# Altium integrated library Components - TPS1HB50.IntLib: 1 symbol
Pins are listed as number, name and electrical type; pins without a type are passive.

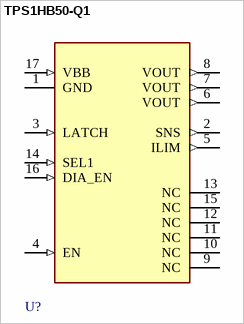
[diagram p0: symbol TPS1HB50-Q1]

## TPS1HB50-Q1
designator U?  (value not drawn)
40-V, 50-mΩ Single-Channel Automotive Smart High-Side Switch; Manufacturer: Texas Instruments; Manufacturer Part Number: TPS26600PWPT; On State Resistance: 150mΩ; Number Of Outputs: 1; Nominal Supply Current: 300uA; Standoff Height: 0.05mm; Min Supply Voltage: 4.2V; Max Supply Voltage: 60V; Max Junction Temp: +125°C; ComponentLink2URL: http://www.ti.com/lit/ds/symlink/tps2660.pdf; Temperature Range High: +125°C; Height: 1.2mm; ComponentLink2Description: Datasheet; Mouser Description: TEXAS INSTRUMENTS - TPS26600PWPT - HOT-SWAP CONTROLLER, 55V, HTSSOP-16; Octopart: https://octopart.com/tps26600pwpt-texas+instruments-75302672; Temperature: -40°C to +125°C; Device Class L3: Hot Swap Controllers; Package: PWP0016H; Digikey Description: IC PWR MGMT EFUSE 60V 16HTSSOP; Category: IC; Automotive: No; Temperature Range Low: -40°C; RoHS: TRUE; Lead Free: Yes; Device Class L1: Integrated Circuits (ICs); Number Of Channels: 1; Device Class L2: Power Management ICs
footprint FP-PWP0016H-IPC_C
footprint FP-PWP0016H-MFG
footprint FP-PWP0016H-IPC_A
footprint FP-PWP0016H-IPC_B
pins: 1 GND (power), 2 SNS (out), 3 LATCH (in), 4 EN (in), 5 ILIM (out), 6 VOUT (out), 7 VOUT (out), 8 VOUT (out), 9 NC, 10 NC, 11 NC, 12 NC, 13 NC, 14 SEL1 (in), 15 NC, 16 DIA_EN (in), 17 VBB (in)